# Altium schematic symbol library L78M05CDT.SchLib: 1 symbol
Pins are listed as number, name and electrical type; pins without a type are passive.

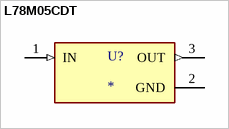
[diagram p0: symbol L78M05CDT]

## L78M05CDT
designator U?
Linear Voltage Regulator IC 1 Output 500mA DPAK; MF: {'manufacturer': u'STMicroelectronics'}; MP: L78M05CDT; Value: *; Package: None; Availability: Unavailable; Price: None
footprint VREG_L78M05CDT
pins: 1 IN (in), 2 GND (power), 3 OUT (out)